# Altium integrated library TI Power Management Buck-Boost Regulator.IntLib: 25 symbols (part 2 of 2)
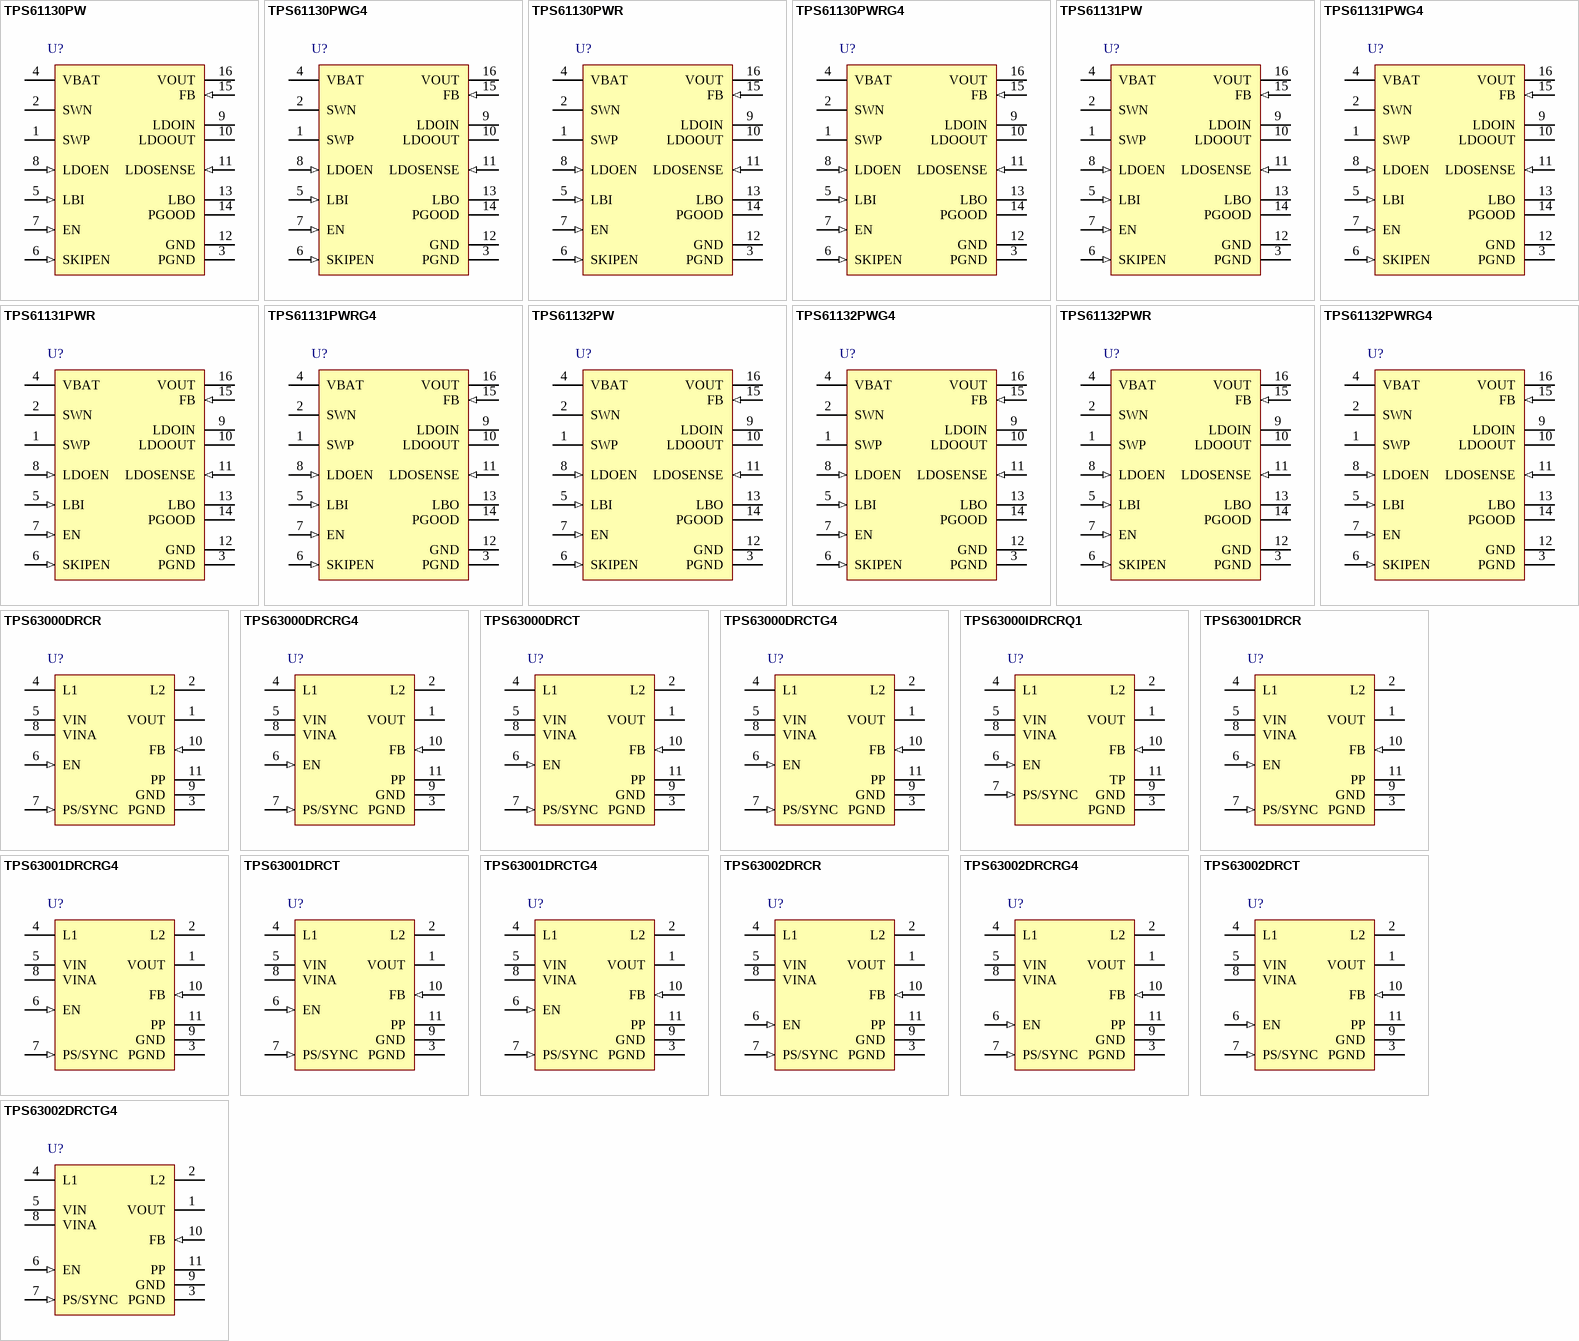
[diagram p1: symbols TPS61130PW to TPS63002DRCTG4]

## TPS63002DRCRG4
designator U?
Buck-Boost Voltage Converter with 1.8 to 5.5 V Input and 5 V Output, -40 to 85 degC, 10-Pin SON (DRC), Green (RoHS & no Sb/Br); Manufacturer: Texas Instruments; PartNumber: TPS63002DRCRG4; Dynamic Voltage Scaling: TRUE; Iout(Max)(A): 1.2; Iq(Typ)(mA): 0.03; Preset Vout(V): 5; Regulated Outputs(#): 1; SubFamily: Buck-Boost Regulator; Switching Frequency(Max)(kHz): 1500; Vin(Max)(V): 5.5; Vin(Min)(V): 1.8; DatasheetVersion: SLVS520B; PackageVersion: revL, Sep-2011; PackageReference: DRC10-2400X1650TP; PackageDescription: 10-Pin Plastic Small Outline No-Lead, 3 x 3 x 1 mm Body, 0.5 mm Pitch, Exposed Pad; Supplier 1: Digi-Key; Supplier Part Number 1: TPS63002DRCRG4-ND; Supplier 2: Newark; Supplier Part Number 2: 04M0264; Supplier 3: Mouser; Supplier Part Number 3: 595-TPS63002DRCRG4; Eco-Plan: Green (RoHS & no Sb/Br); Synchronous Rectification: TRUE; Topology: Buck-Boost; Vout(Max)(V): 5; Vout(Min)(V): 5; Mounting Technology: Surface Mount; ComponentLink1Description: Datasheet; ComponentLink1URL: http://www.ti.com/general/docs/lit/getliterature.tsp?genericPartNumber=TPS63002&fileType=pdf; ComponentLink2Description: Package Specification; ComponentLink2URL: http://www.ti.com/litv/pdf/mpds117k
footprint DRC10-2400X1650TP (SON, 10-Leads, Body 3x3mm, Pitch 0.5mm, Thermal Pad 2.4x1.65mm, TI Recommended)
pins: 1 VOUT (power) "Buck-boost converter output", 2 L2 "Connection for Inductor", 3 PGND (power) "Power ground", 4 L1 "Connection for Inductor", 5 VIN (power) "Supply voltage for power stage", 6 EN (in) "Enable input. (1 enabled, 0 disabled)", 7 PS/SYNC (in) "Enable / disable power save mode (1 disabled, 0 enabled, clock signal for synchronization)", 8 VINA (power) "Supply voltage for control stage", 9 GND (power) "Control/logic ground", 10 FB (in) "Voltage feedback of adjustable versions, must be connected to VOUT on fixed output voltage versions", 11 PP (power) "Must be soldered to achieve appropriate power dissipation. Should be connected to PGND."

## TPS63002DRCT
designator U?
Buck-Boost Voltage Converter with 1.8 to 5.5 V Input and 5 V Output, -40 to 85 degC, 10-Pin SON (DRC), Green (RoHS & no Sb/Br); Manufacturer: Texas Instruments; PartNumber: TPS63002DRCT; Dynamic Voltage Scaling: TRUE; Iout(Max)(A): 1.2; Iq(Typ)(mA): 0.03; Preset Vout(V): 5; Regulated Outputs(#): 1; SubFamily: Buck-Boost Regulator; Switching Frequency(Max)(kHz): 1500; Vin(Max)(V): 5.5; Vin(Min)(V): 1.8; DatasheetVersion: SLVS520B; PackageVersion: revL, Sep-2011; PackageReference: DRC10-2400X1650TP; PackageDescription: 10-Pin Plastic Small Outline No-Lead, 3 x 3 x 1 mm Body, 0.5 mm Pitch, Exposed Pad; Supplier 1: Digi-Key; Supplier Part Number 1: 296-27032-2-ND; Supplier 2: Digi-Key; Supplier Part Number 2: 296-27032-1-ND; Supplier 3: Digi-Key; Supplier Part Number 3: 296-27032-6-ND; Supplier 4: Newark; Supplier Part Number 4: 22M1825; Supplier 5: Mouser; Supplier Part Number 5: 595-TPS63002DRCT; Eco-Plan: Green (RoHS & no Sb/Br); Synchronous Rectification: TRUE; Topology: Buck-Boost; Vout(Max)(V): 5; Vout(Min)(V): 5; Mounting Technology: Surface Mount; ComponentLink1Description: Datasheet; ComponentLink1URL: http://www.ti.com/general/docs/lit/getliterature.tsp?genericPartNumber=TPS63002&fileType=pdf; ComponentLink2Description: Package Specification; ComponentLink2URL: http://www.ti.com/litv/pdf/mpds117k
footprint DRC10-2400X1650TP (SON, 10-Leads, Body 3x3mm, Pitch 0.5mm, Thermal Pad 2.4x1.65mm, TI Recommended)
pins: 1 VOUT (power) "Buck-boost converter output", 2 L2 "Connection for Inductor", 3 PGND (power) "Power ground", 4 L1 "Connection for Inductor", 5 VIN (power) "Supply voltage for power stage", 6 EN (in) "Enable input. (1 enabled, 0 disabled)", 7 PS/SYNC (in) "Enable / disable power save mode (1 disabled, 0 enabled, clock signal for synchronization)", 8 VINA (power) "Supply voltage for control stage", 9 GND (power) "Control/logic ground", 10 FB (in) "Voltage feedback of adjustable versions, must be connected to VOUT on fixed output voltage versions", 11 PP (power) "Must be soldered to achieve appropriate power dissipation. Should be connected to PGND."

## TPS63002DRCTG4
designator U?
Buck-Boost Voltage Converter with 1.8 to 5.5 V Input and 5 V Output, -40 to 85 degC, 10-Pin SON (DRC), Green (RoHS & no Sb/Br); Manufacturer: Texas Instruments; PartNumber: TPS63002DRCTG4; Dynamic Voltage Scaling: TRUE; Iout(Max)(A): 1.2; Iq(Typ)(mA): 0.03; Preset Vout(V): 5; Regulated Outputs(#): 1; SubFamily: Buck-Boost Regulator; Switching Frequency(Max)(kHz): 1500; Vin(Max)(V): 5.5; Vin(Min)(V): 1.8; DatasheetVersion: SLVS520B; PackageVersion: revL, Sep-2011; PackageReference: DRC10-2400X1650TP; PackageDescription: 10-Pin Plastic Small Outline No-Lead, 3 x 3 x 1 mm Body, 0.5 mm Pitch, Exposed Pad; Supplier 1: Digi-Key; Supplier Part Number 1: TPS63002DRCTG4-ND; Supplier 2: Newark; Supplier Part Number 2: 27M1095; Supplier 3: Mouser; Supplier Part Number 3: 595-TPS63002DRCTG4; Eco-Plan: Green (RoHS & no Sb/Br); Synchronous Rectification: TRUE; Topology: Buck-Boost; Vout(Max)(V): 5; Vout(Min)(V): 5; Mounting Technology: Surface Mount; ComponentLink1Description: Datasheet; ComponentLink1URL: http://www.ti.com/general/docs/lit/getliterature.tsp?genericPartNumber=TPS63002&fileType=pdf; ComponentLink2Description: Package Specification; ComponentLink2URL: http://www.ti.com/litv/pdf/mpds117k
footprint DRC10-2400X1650TP (SON, 10-Leads, Body 3x3mm, Pitch 0.5mm, Thermal Pad 2.4x1.65mm, TI Recommended)
pins: 1 VOUT (power) "Buck-boost converter output", 2 L2 "Connection for Inductor", 3 PGND (power) "Power ground", 4 L1 "Connection for Inductor", 5 VIN (power) "Supply voltage for power stage", 6 EN (in) "Enable input. (1 enabled, 0 disabled)", 7 PS/SYNC (in) "Enable / disable power save mode (1 disabled, 0 enabled, clock signal for synchronization)", 8 VINA (power) "Supply voltage for control stage", 9 GND (power) "Control/logic ground", 10 FB (in) "Voltage feedback of adjustable versions, must be connected to VOUT on fixed output voltage versions", 11 PP (power) "Must be soldered to achieve appropriate power dissipation. Should be connected to PGND."